# EAGLE library part _TRANSFORMERS_GDT_20X6.5 (library Namenlos)
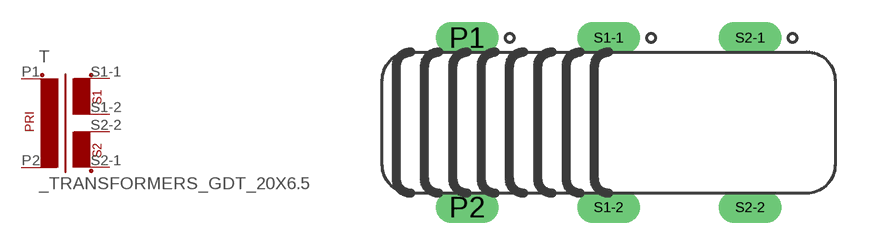
[diagram p47: symbol with the pads of _TRANSFORMERS_GDT_20X6.5; footprint _TRANSFORMERS_GDT_20X6.5]

Designator prefix T

## _TRANSFORMERS_GDT_20X6.5  [_TRANSFORMERS_GDT_20X6.5]
P1  P1-1  pas
P2  P1-2  pas
S1-1  S1-1  pas
S1-2  S1-2  pas
S2-1  S2-1  pas
S2-2  S2-2  pas

## Footprint _TRANSFORMERS_GDT_20X6.5 (pad centres in mm)
drill 0.9 long: P1 -6.35,3.81; P2 -6.35,-3.81; S1-1 0,3.81; S1-2 0,-3.81; S2-1 6.35,3.81; S2-2 6.35,-3.81